# Altium footprint library Footprint_library.PcbLib: 95 footprints (part 5 of 6)
Each footprint in its own frame and in the unit in brackets; x right, y up, seen from the top. Pads: shape width x height; smd on the part's side, far side on the other; paste and mask are expansions set on the pad; w line width, h text height; cw(c..) or ccw(c..) is an arc to the next point about the centre after c.
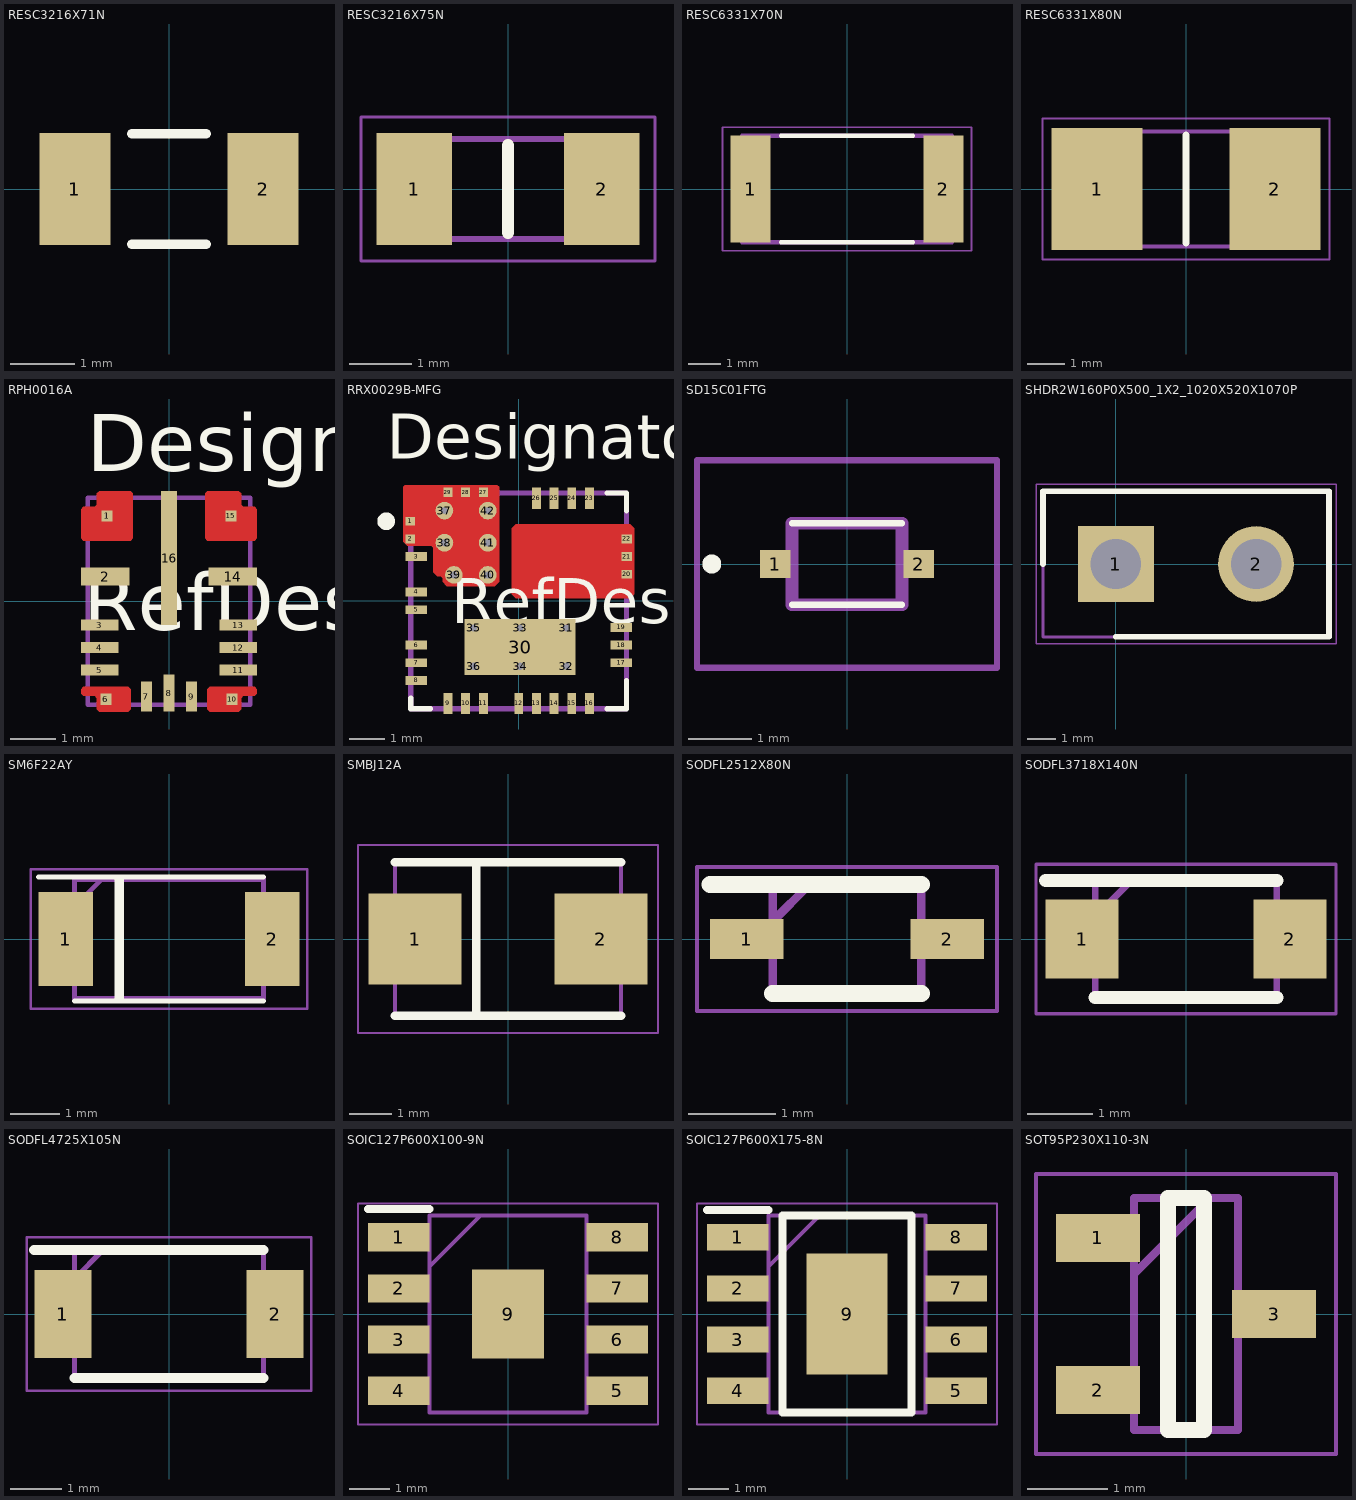
[diagram p4: the footprints below, top view; thin cyan lines are the x and y axes]

## RESC3216X71N [mil]
pads (2):
  rect 44x69 smd: 1(-58,0) 2(58,0)
Top Overlay:
  lines w6: -23,-34 23,-34 ; -23,34 23,34
3D body "TNPW1206100KBEEA.stp": height 23.62, standoff 0, extent -61.02,-31.5 61.02,31.5

## RESC3216X75N [mm]
pads (2):
  rect 1.2x1.8 smd: 1(-1.5,0) 2(1.5,0)
Top Overlay:
  lines w0.2: 0,-0.7 0,0.7
Mechanical 13:
  lines w0.1: -1.6,-0.8 -1.6,0.8 1.6,0.8 1.6,-0.8 -1.6,-0.8
Mechanical 15:
  lines w0.05: -2.35,-1.15 -2.35,1.15 2.35,1.15 2.35,-1.15 -2.35,-1.15
3D body "CR1206-FX-7502ELF.stp": height 0.75, standoff 0, extent -1.6,-0.8 1.6,0.8

## RESC6331X70N [mm]
pads (2):
  rect 1.24x3.32 smd paste+0 mask+0.102: 1(-2.99,0) 2(2.99,0)
Top Overlay:
  lines w0.127: -2.05,-1.65 2.05,-1.65 ; -2.05,1.65 2.05,1.65
Mechanical 13:
  lines w0.127: -3.25,-1.65 -3.25,1.65 3.25,1.65 3.25,-1.65 -3.25,-1.65
Mechanical 15:
  lines w0.05: -3.858,-1.91 -3.858,1.91 3.858,1.91 3.858,-1.91 -3.858,-1.91

## RESC6331X80N [mm]
pads (2):
  rect 2.45x3.3 smd: 1(-2.4,0) 2(2.4,0)
Top Overlay:
  lines w0.2: 0,-1.45 0,1.45
Mechanical 13:
  lines w0.1: -3.15,-1.55 -3.15,1.55 3.15,1.55 3.15,-1.55 -3.15,-1.55
Mechanical 15:
  lines w0.05: -3.875,-1.9 -3.875,1.9 3.875,1.9 3.875,-1.9 -3.875,-1.9
3D body "CRM2512-JW-1R5ELF.stp": height 0.8, standoff 0, extent -3.15,-1.55 3.15,1.55

## RPH0016A [mm]
pads (16):
  rect 0.25x0.25 smd paste-0.112 mask+0.051: 1(-1.375,1.9) 6(-1.4,-2.175) 10(1.4,-2.175) 15(1.375,1.9)
  rect 1.075x0.4 smd paste+0 mask+0.051: 2(-1.413,0.55) 14(1.413,0.55)
  rect 0.825x0.25 smd paste+0 mask+0.051: 3(-1.538,-0.525) 4(-1.538,-1.025) 5(-1.538,-1.525) 11(1.538,-1.525) 12(1.538,-1.025) 13(1.538,-0.525)
  rect 0.25x0.675 smd paste+0 mask+0.051: 7(-0.5,-2.113) 9(0.5,-2.113)
  rect 0.25x0.825 smd paste+0 mask+0.051: 8(0,-2.038)
  rect 0.35x2.975 smd paste+0 mask+0.051: 16(0,0.963)
Top Layer:
  region: 1.9,1.35 1.95,1.4 1.95,2.05 1.9,2.1 1.65,2.1 1.6,2.15 1.6,2.4 1.55,2.45 0.85,2.45 0.8,2.4 0.8,1.4 0.85,1.35
  region: -1.9,1.35 -1.95,1.4 -1.95,2.05 -1.9,2.1 -1.65,2.1 -1.6,2.15 -1.6,2.4 -1.55,2.45 -0.85,2.45 -0.8,2.4 -0.8,1.4 -0.85,1.35
  region: -1.95,-1.95 -1.95,-2.05 -1.9,-2.1 -1.65,-2.1 -1.6,-2.15 -1.6,-2.4 -1.55,-2.45 -0.9,-2.45 -0.85,-2.4 -0.85,-1.95 -0.9,-1.9 -1.9,-1.9
  region: 1.95,-1.95 1.95,-2.05 1.9,-2.1 1.65,-2.1 1.6,-2.15 1.6,-2.4 1.55,-2.45 0.9,-2.45 0.85,-2.4 0.85,-1.95 0.9,-1.9 1.9,-1.9
Top Overlay:
  text "RefDes" at -1.905,-0.635 h1.27
  text "Designator10" at -1.829,2.896 h1.27
Top Paste:
  region: 0.85,1.35 0.8,1.4 0.8,2.34 0.85,2.39 1.49,2.39 1.54,2.34 1.54,2.09 1.59,2.04 1.79,2.04 1.84,1.99 1.84,1.4 1.79,1.35
  region: 0.85,-1.95 0.85,-2.35 0.9,-2.4 1.52,-2.4 1.57,-2.35 1.57,-2.15 1.62,-2.1 1.9,-2.1 1.95,-2.05 1.95,-1.95 1.9,-1.9 0.9,-1.9
  region: -0.85,-1.95 -0.85,-2.35 -0.9,-2.4 -1.52,-2.4 -1.57,-2.35 -1.57,-2.15 -1.62,-2.1 -1.9,-2.1 -1.95,-2.05 -1.95,-1.95 -1.9,-1.9 -0.9,-1.9
  region: -0.85,1.35 -0.8,1.4 -0.8,2.34 -0.85,2.39 -1.49,2.39 -1.54,2.34 -1.54,2.09 -1.59,2.04 -1.79,2.04 -1.84,1.99 -1.84,1.4 -1.79,1.35
Top Solder:
  drawing of 4 lines, arcs and shapes, not listed
Mechanical 13:
  circle w0.1: c-1.2,1.7 r0.3
  lines w0.1: -1.8,-2.3 1.8,-2.3 1.8,2.3 -1.8,2.3 -1.8,-2.3

## RRX0029B-MFG [mm]
pads (42):
  rect 0.267x0.25 smd paste+0 mask-0.127: 1(-3.066,2.25) 2(-3.066,1.75)
  rect 0.6x0.25 smd paste+0 mask+0: 3(-2.9,1.25) 4(-2.9,0.25) 5(-2.9,-0.25) 6(-2.9,-1.25) 7(-2.9,-1.75) 8(-2.9,-2.25) 17(2.9,-1.75) 18(2.9,-1.25) 19(2.9,-0.75)
  rect 0.25x0.6 smd paste+0 mask+0: 9(-2,-2.9) 10(-1.5,-2.9) 11(-1,-2.9) 12(0,-2.9) 13(0.5,-2.9) 14(1,-2.9) 15(1.5,-2.9) 16(2,-2.9) 23(2,2.9) 24(1.5,2.9) 25(1,2.9) 26(0.5,2.9)
  rect 0.293x0.25 smd paste+0 mask-0.14: 20(3.054,0.75) 21(3.054,1.25) 22(3.054,1.75)
  rect 0.25x0.258 smd paste+0 mask-0.114: 27(-1,3.071) 28(-1.5,3.071) 29(-2,3.071)
  rect 3.125x1.584 smd paste-1.55 mask+0: 30(0.037,-1.308)
  round 0.5 / inner round 1.524 / far side round 0.5 hole 0.203 paste-2539.97 mask-0.241: 31(1.35,-0.766) 32(1.35,-1.85) 33(0.037,-0.766) 34(0.037,-1.85) 35(-1.275,-0.766) 36(-1.275,-1.85) 37(-2.1,2.55) 38(-2.1,1.642) 39(-1.834,0.734) 40(-0.875,0.734) 41(-0.875,1.642) 42(-0.875,2.55)
Top Layer:
  region: -3.27,1.675 -3.27,3.22 -3.22,3.27 -0.605,3.27 -0.555,3.22 -0.555,0.534 -0.675,0.414 -2.034,0.414 -2.154,0.534 -2.154,0.641 -2.204,0.691 -2.3,0.691 -2.42,0.811 -2.42,1.505 -2.47,1.555 -3.15,1.555
  region: 3.154,2.17 -0.08,2.17 -0.195,2.055 -0.195,0.185 -0.08,0.07 3.154,0.07 3.27,0.185 3.27,2.055
Top Overlay:
  circle w0.25: c-3.75,2.25 r0.125
  lines w0.15: -3.05,-2.75 -3.05,-3.05 -2.5,-3.05 ; 2.5,-3.05 3.05,-3.05 3.05,-2.25 ; 2.5,3.05 3.05,3.05 3.05,2.545
  text "Designator53" at -3.734,4.013 h1.27
  text "RefDes" at -1.905,-0.635 h1.27
Top Paste:
  region: 2.657,0.22 1.487,0.22 1.437,0.27 1.437,1.92 1.487,1.97 2.657,1.97 2.707,1.92 2.707,0.27
  region: 1.237,1.92 1.237,0.27 1.187,0.22 0.017,0.22 -0.033,0.27 -0.033,1.92 0.017,1.97 1.187,1.97
  region: -1.413,-0.648 -1.363,-0.598 -0.113,-0.598 -0.063,-0.648 -0.063,-1.968 -0.113,-2.018 -1.363,-2.018 -1.413,-1.968
  region: 1.487,-1.968 1.437,-2.018 0.187,-2.018 0.137,-1.968 0.137,-0.648 0.187,-0.598 1.437,-0.598 1.487,-0.648
  region: -2.163,1.542 -0.763,1.542 -0.713,1.492 -0.713,0.592 -0.763,0.542 -1.913,0.542 -2.213,0.842 -2.213,1.492
  region: -2.213,2.592 -2.163,2.642 -0.763,2.642 -0.713,2.592 -0.713,1.792 -0.763,1.742 -2.163,1.742 -2.213,1.792
  region: -2.462,2.642 -2.412,2.592 -2.412,1.792 -2.462,1.742 -2.682,1.742 -2.732,1.792 -2.732,2.592 -2.682,2.642
Top Solder:
  region: -0.125,0.19 -0.125,2.05 -0.075,2.1 2.75,2.1 2.8,2.05 2.8,1.925 2.85,1.875 3.15,1.875 3.2,1.825 3.2,1.675 3.15,1.625 2.85,1.625 2.8,1.575 2.8,1.425 2.85,1.375 3.15,1.375 3.2,1.325 3.2,1.175 3.15,1.125 2.85,1.125 2.8,1.075 2.8,0.925 2.85,0.875 3.15,0.875 3.2,0.825 3.2,0.675 3.15,0.625 2.85,0.625 2.8,0.575 2.8,0.19 2.75,0.14 -0.075,0.14
  region: -2.8,2.425 -2.8,2.6 -2.55,2.8 -2.175,2.8 -2.125,2.85 -2.125,3.15 -2.075,3.2 -1.925,3.2 -1.875,3.15 -1.875,2.85 -1.825,2.8 -1.675,2.8 -1.625,2.85 -1.625,3.15 -1.575,3.2 -1.425,3.2 -1.375,3.15 -1.375,2.85 -1.325,2.8 -1.175,2.8 -1.125,2.85 -1.125,3.15 -1.075,3.2 -0.925,3.2 -0.875,3.15 -0.875,2.85 -0.825,2.8 -0.675,2.8 -0.625,2.75 -0.625,0.534 -0.675,0.484 -2.034,0.484 -2.084,0.534 -2.084,0.641 -2.204,0.761 -2.3,0.761 -2.35,0.811 -2.35,1.505 -2.47,1.625 -3.15,1.625 -3.2,1.675 -3.2,1.825 -3.15,1.875 -2.85,1.875 -2.8,1.925 -2.8,2.075 -2.85,2.125 -3.15,2.125 -3.2,2.175 -3.2,2.325 -3.15,2.375 -2.85,2.375
Mechanical 13:
  lines w0.15: -3.05,-3.05 -3.05,3.05 3.05,3.05 3.05,-3.05 -3.05,-3.05

## SD15C01FTG [mm]
pads (2):
  rect 0.49x0.45 smd: 1(-1.14,0) 2(1.14,0)
Top Overlay:
  lines w0.1: -0.875,-0.65 0.875,-0.65 -0.875,-0.65 ; -0.875,0.65 0.875,0.65 -0.875,0.65
  lines w0.2: -2.2,0 ccw(c-2.15,0) -2.1,0 ; -2.2,0 cw(c-2.15,0) -2.1,0 ; -2.2,0 ccw(c-2.15,0) -2.1,0
Mechanical 13:
  lines w0.2: -0.875,-0.65 0.875,-0.65 0.875,0.65 -0.875,0.65 -0.875,-0.65
Mechanical 15:
  lines w0.1: -2.385,-1.65 2.385,-1.65 2.385,1.65 -2.385,1.65 -2.385,-1.65
3D body "SD15C-01FTG.stp": height 1, standoff 0, extent -1.312,-0.65 1.312,0.65

## SHDR2W160P0X500_1X2_1020X520X1070P [mm]
pads (2):
  rect 2.7x2.7 hole 1.8: 1(0,0)
  round 2.7 hole 1.8: 2(5,0)
Top Overlay:
  lines w0.2: -2.6,0 -2.6,2.6 7.6,2.6 7.6,-2.6 0,-2.6
Mechanical 13:
  lines w0.1: -2.6,-2.6 7.6,-2.6 7.6,2.6 -2.6,2.6 -2.6,-2.6
Mechanical 15:
  lines w0.05: -2.85,-2.85 7.85,-2.85 7.85,2.85 -2.85,2.85 -2.85,-2.85
3D body "XT30UPB-M.stp": height 10.7, standoff -2, extent -2.6,-2.6 7.6,2.6

## SM6F22AY [mm]
pads (2):
  rect 1.1x1.88 smd: 1(-2.075,0) 2(2.075,0)
Top Overlay:
  lines w0.1: -2.625,1.25 1.9,1.25 ; -1.9,-1.25 1.9,-1.25
  lines w0.2: -1,-1.2 -1,1.2
Mechanical 13:
  lines w0.1: -1.9,0.65 -1.35,1.2 ; -1.9,-1.2 -1.9,1.2 1.9,1.2 1.9,-1.2 -1.9,-1.2
Mechanical 15:
  lines w0.05: -2.775,-1.4 -2.775,1.4 2.775,1.4 2.775,-1.4 -2.775,-1.4
3D body "SM6F23AY.stp": height 0.99, standoff 0, extent -2.191,-1.2 2.191,1.2

## SMBJ12A [mm]
pads (2):
  rect 2.2x2.15 smd: 1(-2.2,0) 2(2.2,0)
Top Overlay:
  lines w0.2: -2.675,-1.812 2.675,-1.812 ; -2.675,1.812 2.675,1.812 ; -0.75,-1.812 -0.75,1.812
Mechanical 13:
  lines w0.1: -2.675,-1.812 2.675,-1.812 2.675,1.812 -2.675,1.812 -2.675,-1.812
Mechanical 15:
  lines w0.05: -3.55,-2.225 3.55,-2.225 3.55,2.225 -3.55,2.225 -3.55,-2.225
3D body "SMBJ6.0A.stp": height 2.33, standoff 0.01, extent -2.675,-1.86 2.675,1.86

## SODFL2512X80N [mm]
pads (2):
  rect 0.84x0.46 smd: 1(-1.15,0) 2(1.15,0)
Top Overlay:
  lines w0.2: -1.57,0.625 0.85,0.625 ; -0.85,-0.625 0.85,-0.625
Mechanical 13:
  lines w0.1: -0.85,0.205 -0.43,0.625 ; -0.85,-0.625 0.85,-0.625 0.85,0.625 -0.85,0.625 -0.85,-0.625
Mechanical 15:
  lines w0.05: -1.72,-0.825 1.72,-0.825 1.72,0.825 -1.72,0.825 -1.72,-0.825
3D body "PMEG6010CEJ,115.stp": height 0.71, standoff 0, extent -1.251,-0.627 1.249,0.623

## SODFL3718X140N [mm]
pads (2):
  rect 1.12x1.22 smd: 1(-1.6,0) 2(1.6,0)
Top Overlay:
  lines w0.2: -2.16,0.9 1.4,0.9 ; -1.4,-0.9 1.4,-0.9
Mechanical 13:
  lines w0.1: -1.4,0.34 -0.84,0.9 ; -1.4,-0.9 -1.4,0.9 1.4,0.9 1.4,-0.9 -1.4,-0.9
Mechanical 15:
  lines w0.05: -2.31,-1.15 -2.31,1.15 2.31,1.15 2.31,-1.15 -2.31,-1.15
3D body "SMF6.0A.stp": height 1.4, standoff 0, extent -1.85,-0.9 1.85,0.9

## SODFL4725X105N [mm]
pads (2):
  rect 1.12x1.72 smd: 1(-2.075,0) 2(2.075,0)
Top Overlay:
  lines w0.2: -2.635,1.25 1.85,1.25 ; -1.85,-1.25 1.85,-1.25
Mechanical 13:
  lines w0.1: -1.85,0.69 -1.29,1.25 ; -1.85,-1.25 1.85,-1.25 1.85,1.25 -1.85,1.25 -1.85,-1.25
Mechanical 15:
  lines w0.05: -2.785,-1.5 2.785,-1.5 2.785,1.5 -2.785,1.5 -2.785,-1.5
3D body "RBR5LAM60ATFTR.stp": height 0.95, standoff 0, extent -2.35,-1.25 2.35,1.25

## SOIC127P600X100-9N [mm]
pads (9):
  rect 1.525x0.7 smd: 1(-2.712,1.905) 2(-2.712,0.635) 3(-2.712,-0.635) 4(-2.712,-1.905) 5(2.712,-1.905) 6(2.712,-0.635) 7(2.712,0.635) 8(2.712,1.905)
  rect 1.8x2.2 smd: 9(0,0)
Top Overlay:
  lines w0.2: -3.475,2.605 -1.95,2.605
Mechanical 13:
  lines w0.1: -1.95,1.18 -0.68,2.45 ; -1.95,-2.45 -1.95,2.45 1.95,2.45 1.95,-2.45 -1.95,-2.45
Mechanical 15:
  lines w0.05: -3.725,-2.75 -3.725,2.75 3.725,2.75 3.725,-2.75 -3.725,-2.75
3D body "BD9G401EFJ-ME2.stp": height 1, standoff 0, extent -3,-2.45 3,2.45

## SOIC127P600X175-8N [mm]
pads (9):
  rect 1.525x0.65 smd: 1(-2.712,1.905) 2(-2.712,0.635) 3(-2.712,-0.635) 4(-2.712,-1.905) 5(2.712,-1.905) 6(2.712,-0.635) 7(2.712,0.635) 8(2.712,1.905)
  rect 2x3 smd: 9(0,0)
Top Overlay:
  lines w0.2: -3.475,2.58 -1.95,2.58 ; -1.6,-2.45 1.6,-2.45 1.6,2.45 -1.6,2.45 -1.6,-2.45
Mechanical 13:
  lines w0.1: -1.95,1.18 -0.68,2.45 ; -1.95,-2.45 1.95,-2.45 1.95,2.45 -1.95,2.45 -1.95,-2.45
Mechanical 15:
  lines w0.05: -3.725,-2.75 3.725,-2.75 3.725,2.75 -3.725,2.75 -3.725,-2.75
3D body "NE555DR.stp": height 1.75, standoff 0, extent -3,-2.45 3,2.45

## SOT95P230X110-3N [mm]
pads (3):
  rect 1.05x0.6 smd: 1(-1.1,0.95) 2(-1.1,-0.95) 3(1.1,0)
Top Overlay:
  lines w0.2: -0.225,-1.45 0.225,-1.45 0.225,1.45 -0.225,1.45 -0.225,-1.45
Mechanical 13:
  lines w0.1: -0.65,0.5 0.3,1.45 ; -0.65,-1.45 0.65,-1.45 0.65,1.45 -0.65,1.45 -0.65,-1.45
Mechanical 15:
  lines w0.05: -1.875,-1.75 1.875,-1.75 1.875,1.75 -1.875,1.75 -1.875,-1.75
3D body "BAT54S,215.stp": height 0.95, standoff 0, extent -1.201,-1.448 1.199,1.452